# Altium footprint library ALTIMU-10.PcbLib: 1 footprints
Each footprint in its own frame and in the unit in brackets; x right, y up, seen from the top. Pads: shape width x height; smd on the part's side, far side on the other; paste and mask are expansions set on the pad; w line width, h text height; cw(c..) or ccw(c..) is an arc to the next point about the centre after c.
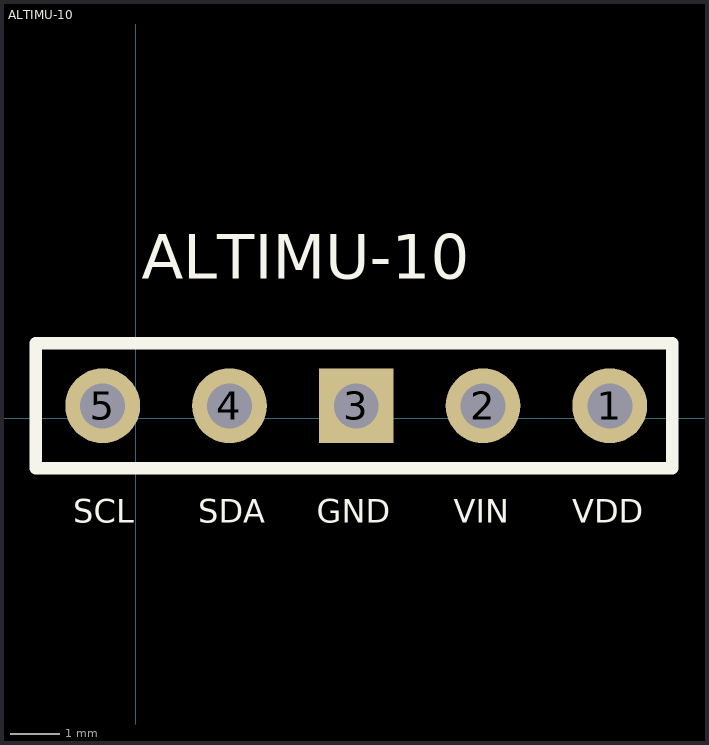
[diagram p0: the footprint, top view; thin cyan lines are the x and y axes]

## ALTIMU-10 [mm]
pads (5):
  round 1.5 hole 0.9: 1(9.5,0.25) 2(6.96,0.25) 4(1.88,0.25) 5(-0.66,0.25)
  rect 1.5x1.5 hole 0.9: 3(4.42,0.25)
Top Overlay:
  lines w0.254: -2,-1 -2,1.5 10.75,1.5 10.75,-1 -2,-1
  text "SCL" at -1.25,-2.25 h0.8
  text "SDA" at 1.25,-2.25 h0.8
  text "GND" at 3.625,-2.25 h0.8
  text "VIN" at 6.375,-2.25 h0.8
  text "VDD" at 8.75,-2.25 h0.8
  text "ALTIMU-10" at 0.125,2.5 h1.52